# Altium schematic symbol library KB-TC2030.SchLib: 1 symbol
Pins are listed as number, name and electrical type; pins without a type are passive.

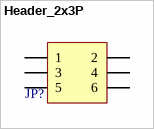
[diagram p0: symbol Header_2x3P]

## Header_2x3P
designator JP?
pins: 1, 2, 3, 4, 5, 6